# EAGLE library part 05_PINHEAD_1X14 (library ftdi_ft231xq-r)
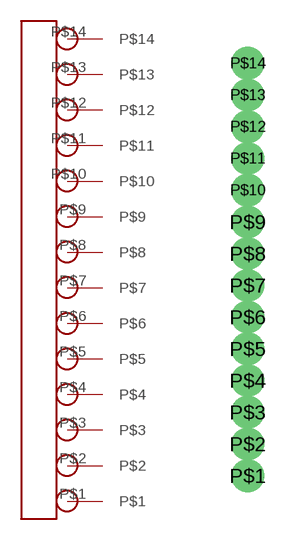
[diagram p3: symbol with the pads of 05_PINHEAD_1X14_PACKAGE; footprint 05_PINHEAD_1X14_PACKAGE]

Designator prefix -

## 05_PINHEAD_1X14  [05_PINHEAD_1X14_PACKAGE]
P$1  P$1
P$2  P$2
P$3  P$3
P$4  P$4
P$5  P$5
P$6  P$6
P$7  P$7
P$8  P$8
P$9  P$9
P$10  P$10
P$11  P$11
P$12  P$12
P$13  P$13
P$14  P$14

## Footprint 05_PINHEAD_1X14_PACKAGE (pad centres in mm)
drill 0.8 pad 1.143: P$1 0,0; P$2 0,1.27; P$3 0,2.54; P$4 0,3.81; P$5 0,5.08; P$6 0,6.35; P$7 0,7.62; P$8 0,8.89; P$9 0,10.16; P$10 0,11.43; P$11 0,12.7; P$12 0,13.97; P$13 0,15.24; P$14 0,16.51